# EAGLE library part TPS63020 (library TPS63020)
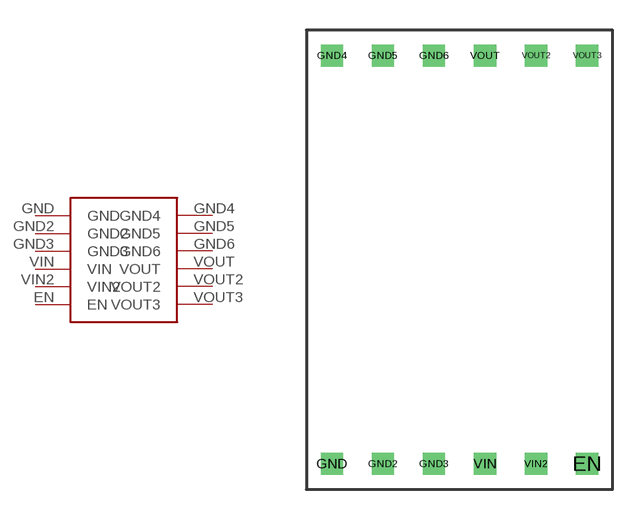
[diagram p0: symbol with the pads of TPS63020; footprint TPS63020]

Designator prefix -

## TPS63020  [TPS63020]
EN  EN
GND  GND
GND2  GND2
GND3  GND3
GND4  GND4
GND5  GND5
GND6  GND6
VIN  VIN
VIN2  VIN2
VOUT  VOUT
VOUT2  VOUT2
VOUT3  VOUT3

## Footprint TPS63020 (pad centres in mm)
drill 0.6 square: EN 13.97,-21.59; GND 1.27,-21.59; GND2 3.81,-21.59; GND3 6.35,-21.59; GND4 1.27,-1.27; GND5 3.81,-1.27; GND6 6.35,-1.27; VIN 8.89,-21.59; VIN2 11.43,-21.59; VOUT 8.89,-1.27; VOUT2 11.43,-1.27; VOUT3 13.97,-1.27